# EAGLE library part MPT10 (library J-HDR2.54mm)
PHOENIX CONTACT 1725737 MPT 0,5/10-2,54
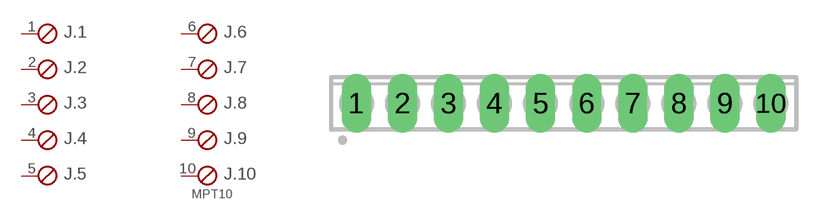
[diagram p6: symbol with the pads of MPT10; footprint MPT10]

Designator prefix J; gates .1=SKB .2=SKB .3=SKB .4=SKB .5=SKB .6=SKB .7=SKB .8=SKB .9=SKB .10=SKBV

## MPT10  [MPT10]
1  .1:1  pas
2  .2:1  pas
3  .3:1  pas
4  .4:1  pas
5  .5:1  pas
6  .6:1  pas
7  .7:1  pas
8  .8:1  pas
9  .9:1  pas
10  .10:1  pas

## Footprint MPT10 (pad centres in mm)
PHOENIX CONTACT MPT 0,5/10-2,54 PN: 1725737 Drill Size 57: .043" (1.1mm)
drill 1.092 long: 1 0,0; 2 2.54,0; 3 5.08,0; 4 7.62,0; 5 10.16,0; 6 12.7,0; 7 15.24,0; 8 17.78,0; 9 20.32,0; 10 22.86,0